# Altium footprint library PcbLib1.PcbLib: 13 footprints
Each footprint in its own frame and in the unit in brackets; x right, y up, seen from the top. Pads: shape width x height; smd on the part's side, far side on the other; paste and mask are expansions set on the pad; w line width, h text height; cw(c..) or ccw(c..) is an arc to the next point about the centre after c.
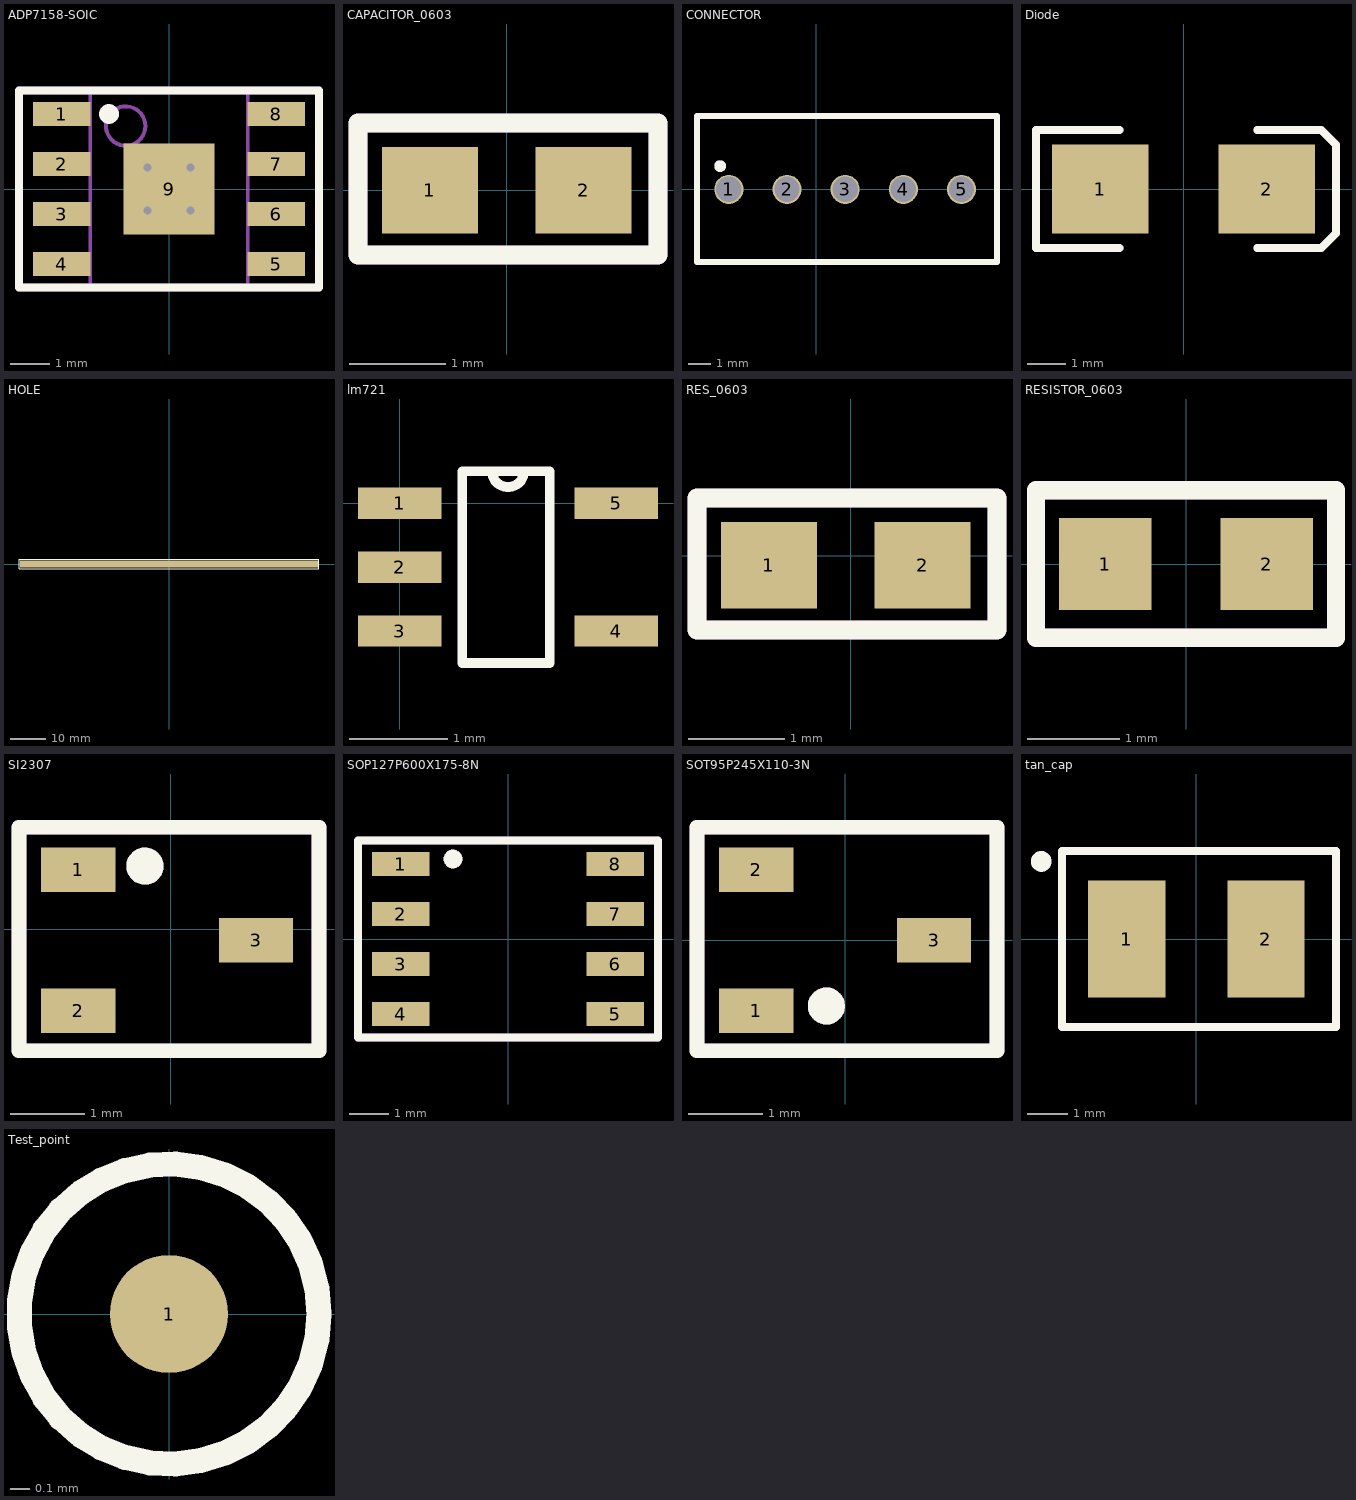
[diagram p0: the footprints below, top view; thin cyan lines are the x and y axes]

## ADP7158-SOIC [mm] "SOIC, 8-Leads, Body 4.90x3.90mm, Pitch 1.27mm, Thermal Pad 2.30x2.30mm, IPC Medium Density"
height 1.75
pads (9):
  rect 1.45x0.6 smd: 1(-2.725,1.905) 2(-2.725,0.635) 3(-2.725,-0.635) 4(-2.725,-1.905) 5(2.725,-1.905) 6(2.725,-0.635) 7(2.725,0.635) 8(2.725,1.905)
  rect 2.3x2.3 smd: 9(0,0)
via -0.55,0.55 diameter 0.5 hole 0.2
via 0.55,0.55 diameter 0.5 hole 0.2
via -0.55,-0.55 diameter 0.5 hole 0.2
via 0.55,-0.55 diameter 0.5 hole 0.2
Top Overlay:
  circle w0.25: c-1.524,1.905 r0.125
  lines w0.2: -3.81,-2.5 -3.81,2.5 3.81,2.5 3.81,-2.5 -3.81,-2.5
Mechanical 13:
  circle w0.1: c-1.1,1.6 r0.5
  circle w0.25: c-1.524,1.905 r0.125
  lines w0.1: -2,-2.5 -2,2.5 2,2.5 2,-2.5 -2,-2.5
  lines w0.2: -3.81,-2.5 3.81,-2.5 3.81,2.5 -3.81,2.5 -3.81,-2.5
Mechanical 15:
  lines w0.1: -0.5,0 0.5,0 ; 0,-0.5 0,0.5
3D body: height 1.75, standoff 0.1, extent -2,-2.5 2,2.5

## CAPACITOR_0603 [mm]
height 0.9
pads (2):
  rect 1x0.9 smd: 1(-0.8,0) 2(0.8,0)
Top Overlay:
  lines w0.2: -1.55,-0.675 -1.55,0.7 1.575,0.7 1.575,-0.675 -1.55,-0.675
Mechanical 13:
  lines w0.2: -1.55,-0.675 1.575,-0.675 1.575,0.7 -1.55,0.7 -1.55,-0.675
3D body "CircuitWorks-CAPACITOR 0805.STEP": height 1.36, standoff 0.05, extent -1,-0.411 1,0.349

## CONNECTOR [mm]
pads (5):
  round 1.27 hole 1.1: 1(-3.81,0) 2(-1.27,0) 3(1.27,0) 4(3.81,0) 5(6.35,0)
Top Overlay:
  circle w0.254: c-4.191,1.016 r0.127
  lines w0.254: -5.2,-3.17 -5.2,3.2 7.9,3.2 7.9,-3.17 -5.2,-3.17
Mechanical 13:
  circle w0.254: c-4.191,1.016 r0.127
  lines w0.254: -5.2,-3.17 -5.2,3.2 7.9,3.2 7.9,-3.17 -5.2,-3.17

## Diode [mm]
pads (2):
  rect 2.5x2.3 smd: 1(-2.15,0) 2(2.15,0)
Top Overlay:
  lines w0.2: -1.651,-1.524 -3.81,-1.524 -3.81,0.94 -3.81,1.524 -1.651,1.524 ; 1.905,-1.524 3.556,-1.524 3.937,-1.143 3.937,1.143 3.556,1.524 1.905,1.524
Mechanical 13:
  lines w0.2: -1.651,-1.524 -3.81,-1.524 -3.81,0.94 -3.81,1.524 -1.651,1.524 ; 1.905,-1.524 3.556,-1.524 3.937,-1.143 3.937,1.143 3.556,1.524 1.905,1.524

## HOLE [mm]
pads (1):
  rect 85x2 smd: 1(0,0)
Top Overlay:
  lines w0.127: -42.8,-1.35 -42.8,1.35 42.75,1.35 42.75,-1.35 -42.8,-1.35

## lm721 [mm]
pads (5):
  rect 0.85x0.32 smd: 1(0,0) 2(0,-0.65) 3(0,-1.3) 4(2.2,-1.3) 5(2.2,0)
Top Overlay:
  lines w0.1: 0.635,-1.625 1.524,-1.625 1.524,0.325 0.938,0.325 ccw(c1.1,0.325) 1.262,0.325 0.635,0.325 0.635,-1.625
3D body "User Library-DCK(R-PDSO-G6).STEP": height 1.01, standoff -0.09, extent -0.05,-1.65 2.15,0.35

## RES_0603 [mm]
pads (2):
  rect 1x0.9 smd: 1(-0.85,-0.1) 2(0.75,-0.1)
Top Overlay:
  lines w0.2: -1.6,-0.775 1.525,-0.775 1.525,0.6 -1.6,0.6 -1.6,-0.775
Mechanical 13:
  lines w0.2: -1.6,-0.775 -1.6,0.6 1.525,0.6 1.525,-0.775 -1.6,-0.775
3D body "User Library-CR1608-0603.STEP": height 0.41, standoff -0.04, extent -0.85,-0.5 0.75,0.3

## RESISTOR_0603 [mm]
height 0.55
pads (2):
  rect 1x1 smd: 1(-0.875,0) 2(0.875,0)
Top Overlay:
  lines w0.2: -1.625,-0.8 1.625,-0.8 1.625,0.8 -1.625,0.8 -1.625,-0.8
Mechanical 13:
  lines w0.2: -1.625,-0.8 -1.625,0.8 1.625,0.8 1.625,-0.8 -1.625,-0.8
3D body "User Library-RESC1608X05N.STEP": height 0.45, standoff 0, extent -0.775,-0.425 0.775,0.425

## SI2307 [mm]
pads (3):
  rect 1x0.6 smd: 1(-1.25,0.8) 2(-1.25,-1.1) 3(1.15,-0.15)
Top Overlay:
  circle w0.25: c-0.35,0.85 r0.125
  lines w0.2: -2.05,-1.642 2,-1.642 2,1.374 -2.05,1.374 -2.05,-1.642
Mechanical 13:
  circle w0.25: c-0.35,0.85 r0.125
  lines w0.2: -2.05,-1.642 -2.05,1.374 2,1.374 2,-1.642 -2.05,-1.642
3D body: height 1.1, standoff 0.05, extent -0.75,-1.65 0.65,1.35

## SOP127P600X175-8N [mm] "SOP, 8-Leads, Body 4.90x3.90mm, Pitch 1.27mm, IPC Medium Density"
height 1.75
pads (8):
  rect 1.45x0.6 smd: 1(-2.725,1.905) 2(-2.725,0.635) 3(-2.725,-0.635) 4(-2.725,-1.905) 5(2.725,-1.905) 6(2.725,-0.635) 7(2.725,0.635) 8(2.725,1.905)
Top Overlay:
  circle w0.25: c-1.397,2.032 r0.112
  lines w0.2: -3.81,-2.5 -3.81,2.5 3.81,2.5 3.81,-2.5 -3.81,-2.5
Mechanical 13:
  circle w0.25: c-1.397,2.032 r0.112
  lines w0.2: -3.81,-2.5 3.81,-2.5 3.81,2.5 -3.81,2.5 -3.81,-2.5
3D body: height 1.75, standoff 0.1, extent -2,-2.5 2,2.5

## SOT95P245X110-3N [mm] "SOT23, 3-Leads, Body 2.90x2.45mm, Pitch 0.95mm, IPC Medium Density"
height 1.1
pads (3):
  rect 1x0.6 smd: 1(-1.2,-0.95) 2(-1.2,0.95) 3(1.2,0)
Top Overlay:
  circle w0.25: c-0.254,-0.889 r0.125
  lines w0.2: -2,-1.492 -2,1.524 2.05,1.524 2.05,-1.492 -2,-1.492
Mechanical 13:
  circle w0.25: c-0.254,-0.889 r0.125
  lines w0.2: -2,-1.492 2.05,-1.492 2.05,1.524 -2,1.524 -2,-1.492
3D body: height 1.1, standoff 0.05, extent -0.7,-1.5 0.7,1.5

## tan_cap [mm]
pads (2):
  rect 1.9x2.88 smd: 1(-1.71,0) 2(1.71,0)
Top Overlay:
  circle w0.254: c-3.81,1.905 r0.127
  lines w0.2: -3.302,-2.159 3.429,-2.159 3.429,2.159 -3.302,2.159 -3.302,-0.418 -3.302,-2.159
3D body "User Library-AVX_BCASE.STEP": height 2.03, standoff 0, extent -1.723,-1.465 1.977,1.465

## Test_point [mm]
pads (1):
  round 0.6 smd: 1(0,0)
Top Overlay:
  circle w0.127: c0,0 r0.762
  region: 0,0